# Altium integrated library Infineon ESD & EMI.IntLib: 71 symbols (part 2 of 2)
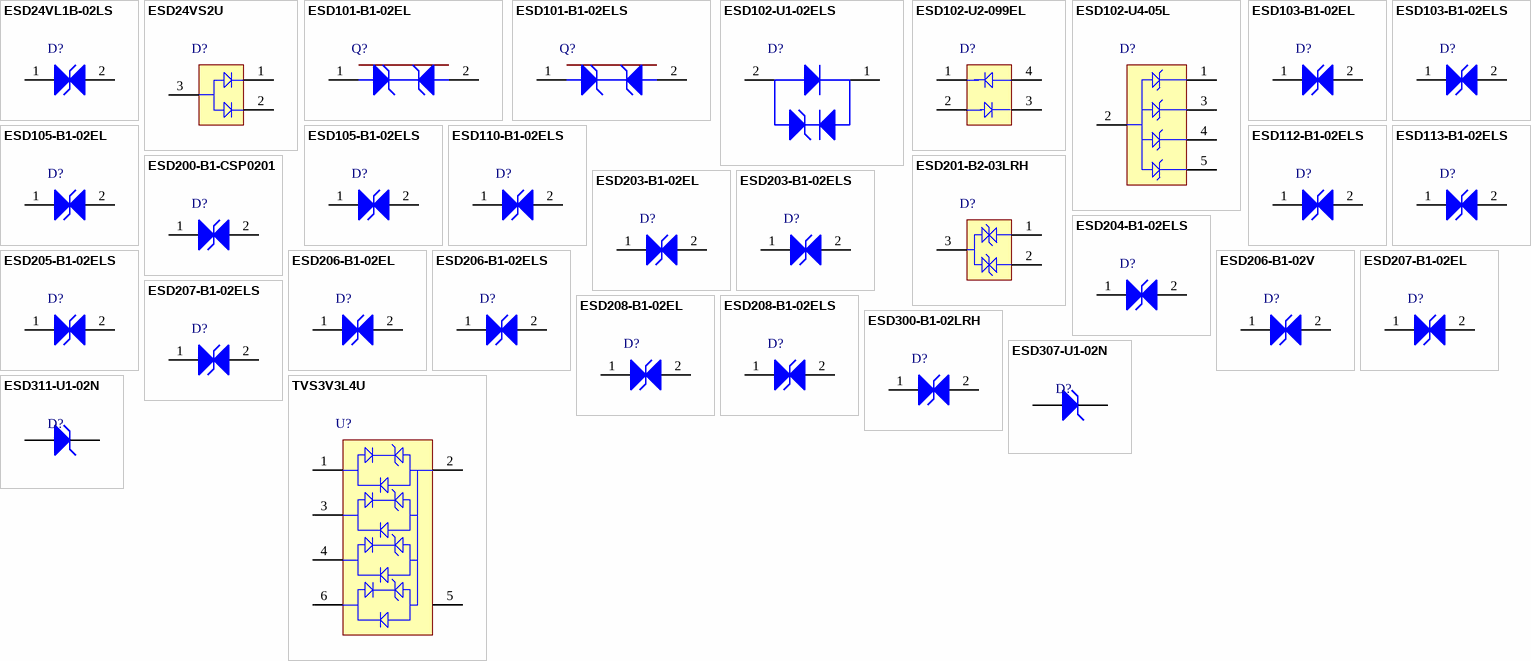
[diagram p2: symbols ESD24VL1B-02LS to TVS3V3L4U]

## ESD24VS2U
designator D?
Silicon TVS Diode, -55 to 150 degC, SOT23, Reel, Green; Manufacturer: Infineon; PartNumber: ESD24VS2U; CL (typ,max): 48 pF, 52 pF; Green: TRUE; IR (max): 10 uA; Rdyn typ forward: 0.11 Ohm; Rdyn typ reverse: 0.22 Ohm; VESD (max): 30 kV; VRWM (max): 24 V; PackageVersion: Apr-08; PackageReference: SOT23; PackageDescription: 3-Pin Small Outline Transistor Package, 1.3 x 2.9 mm Body, 0.95 mm Pitch; Supplier 1: Mouser; Supplier Part Number 1: N/A; Packing: Reel; Mounting Technology: Surface Mount; ComponentLink1Description: Manufacturer URL; ComponentLink1URL: http://www.infineon.com/; ComponentLink2Description: Datasheet; ComponentLink2URL: http://www.infineon.com/dgdl/esd24vs2u.pdf?folderId=db3a30431f848401011fcbf2ab4c04c4&fileId=db3a3043340fff53013413a2249d2ff3; ComponentLink3Description: Package Specification; ComponentLink3URL: http://www.infineon.com/dgdl/SOT23-Package_Overview.pdf?folderId=db3a30431936bc4b0119532290053c66&fileId=db3a30431936bc4b0119533468123c85
footprint INF-SOT23_N (SOT23, 3-Leads, Body 2.9x1.3 mm, Pitch 0.95 mm, IPC Medium Density)
footprint INF-SOT23_L (SOT23, 3-Leads, Body 2.9x1.3 mm, Pitch 0.95 mm, IPC High Density)
footprint INF-SOT23_M (SOT23, 3-Leads, Body 2.9x1.3 mm, Pitch 0.95 mm, IPC Low Density)
pins: 1 K1, 2 K2, 3 A

## ESD101-B1-02EL
designator Q?
Bi-directional Ultra Low Capacitance TVS Diode, -55 to 125 degC, TSLP-2, Reel, Green; Manufacturer: Infineon; PartNumber: ESD101-B1-02EL; CL (max): 0.2 pF; CL (typ): 0.1 pF; Green: TRUE; IR (max): 0.05 uA; VESD (max): 12 kV; VESD (min): -12 kV; VRWM (max): 5.5 V; VRWM (min): -5.5 V; DatasheetVersion: Rev. 1.2; PackageVersion: Feb-14; PackageReference: TSLP-2-20; PackageDescription: 2-Pin Thin Small Leadless Package, 0.6 x 1 mm Body; Halogen-free: TRUE; Packing: Reel; Mounting Technology: Surface Mount; ComponentLink1Description: Manufacturer URL; ComponentLink1URL: http://www.infineon.com/; ComponentLink2Description: Datasheet; ComponentLink2URL: http://www.infineon.com/dgdl/ESD101_B1_02series_rev_1_2.pdf?folderId=db3a30431f848401011fcbf2ab4c04c4&fileId=db3a30433e9d5d11013e9d6619a20002; ComponentLink3Description: Package Specification; ComponentLink3URL: http://www.infineon.com/dgdl/TSLP-2-19%2C-20-Package-Overview.pdf?folderId=db3a30431689f4420116afb5e4d9058b&fileId=db3a304344134c7a01441cad46672863
footprint INF-TSLP-2-20_V (TSLP, 2-Leads, Body 1x0.6mm, Pitch 0.65mm)
pins: 1 C1, 2 C2

## ESD101-B1-02ELS
designator Q?
Bi-directional Ultra Low Capacitance TVS Diode, -55 to 125 degC, TSSLP-2, Reel, Green; Manufacturer: Infineon; PartNumber: ESD101-B1-02ELS; CL (max): 0.2 pF; CL (typ): 0.1 pF; Green: TRUE; IR (max): 0.05 uA; DatasheetVersion: Rev. 1.2; PackageVersion: Apr-14; PackageReference: TSSLP-2-4; PackageDescription: 2-Pin Thin Super Small Leadless Package, 0.62 x 0.32 mm Body, 0.355 mm Pitch; Halogen-free: TRUE; Packing: Reel; Mounting Technology: Surface Mount; ComponentLink1Description: Manufacturer URL; ComponentLink1URL: http://www.infineon.com/; ComponentLink2Description: Datasheet; ComponentLink2URL: http://www.infineon.com/dgdl/ESD101_B1_02series_rev_1_2.pdf?folderId=db3a30431f848401011fcbf2ab4c04c4&fileId=db3a30433e9d5d11013e9d6619a20002; ComponentLink3Description: Package Specification; ComponentLink3URL: http://www.infineon.com/dgdl/TSSLP-2-3%2C-4-Package_Overview-.pdf?folderId=db3a30431689f4420116afb5e4d9058b&fileId=db3a304344134c7a01441c9888ca285e
footprint INF-TSSLP-2-4_V (TSSLP, 2-Leads, Body 0.62x0.32mm, Pitch 0.38mm)
pins: 1 C1, 2 C2

## ESD102-U1-02ELS
designator D?
Uni-directional Ultra-Low Capacitance ESD / Transient Protection Diode, -40 to 125 degC, PG-TSSLP-2-3, Reel, Green; Manufacturer: Infineon; PartNumber: ESD102-U1-02ELS; CL (max): 0.65 pF; CL (typ): 0.4 pF; Green: TRUE; IEFT: 50 A; IR (max): 50 uA; Isurge: 3 A; Protected Lines: 1; Rdyn typ forward: 0.23 Ohm; Rdyn typ reverse: 0.19 Ohm; VESD (max): 20 kV; VESD (min): -20 kV; VRWM (max): 3.3 V; DatasheetVersion: Rev. 1.0; PackageVersion: Nov-12; PackageReference: PG-TSSLP-2-3; PackageDescription: 2-Pin Thin Super Small Leadless Package, Body 0.62 x 0.32 mm, Pitch 0.355 mm; Halogen-free: TRUE; Packing: Reel; Mounting Technology: Surface Mount; ComponentLink1Description: Manufacturer URL; ComponentLink1URL: http://www.infineon.com/; ComponentLink2Description: Datasheet; ComponentLink2URL: http://www.infineon.com/dgdl/ESD102-U1-02ELS_rev_1_0.pdf?folderId=db3a30431f848401011fcbf2ab4c04c4&fileId=db3a30433d346a2d013d3a9e3c1b38ec; ComponentLink3Description: Package Specification; ComponentLink3URL: http://www.infineon.com/dgdl/TSSLP-2-3%2C-4-Package_Overview.pdf?folderId=db3a30431689f4420116afb5e4d9058b&fileId=db3a30433899edae0138b2fa94a80ffd
footprint INF-PG-TSSLP-2-3_V (TSSLP, 2-Leads, Body 0.62x0.32mm, Pitch 0.38mm)
pins: 1 C1, 2 C2

## ESD102-U2-099EL
designator D?
2-Line Ultra-low Capacitance ESD / Transient Protection Diode, -40 to 125 degC, TSLP-4, Reel, Green; Manufacturer: Infineon; PartNumber: ESD102-U2-099EL; CL (max): 0.65 pF; CL (typ): 0.4 pF; Green: TRUE; IR (max): 0.05 uA; DatasheetVersion: Rev. 1.1; PackageVersion: Mar-13; PackageReference: TSLP-4-10; PackageDescription: 4-Pin Thin Small Leadless Package, 0.75 x 0.75 mm Body, 0.4 mm Pitch; Halogen-free: TRUE; Packing: Reel; Mounting Technology: Surface Mount; ComponentLink1Description: Manufacturer URL; ComponentLink1URL: http://www.infineon.com/; ComponentLink2Description: Datasheet; ComponentLink2URL: http://www.infineon.com/dgdl/ESD102-U2-099EL_series_rev_1_1.pdf?folderId=db3a30431f848401011fcbf2ab4c04c4&fileId=db3a30433e82b1cf013e9d5922a412a5; ComponentLink3Description: Package Specification; ComponentLink3URL: http://www.infineon.com/dgdl/TSLP-4-10-Package_Overview.pdf?folderId=db3a30431689f4420116afb5e4d9058b&fileId=db3a30433d68e984013d8882990b12bd
footprint INF-TSLP-4-10_V (TSLP, 4-Leads, Body 0.75x0.75mm, Pitch 0.4mm)
pins: 1 K1, 2 A2, 3 K2, 4 A1

## ESD102-U4-05L
designator D?
Ultra-Low Capacitance ESD Protection Array for Flow-Through PCB Layout, -40 to 125 degC, PG-TSLP-5-2, Reel, Green; Manufacturer: Infineon; PartNumber: ESD102-U4-05L; CL (max): 0.65 pF; CL (typ): 0.4 pF; Green: TRUE; IEFT: 50 A; IR (max): 50 uA; Isurge: 3 A; Protected Lines: 4; Rdyn typ forward: 0.23 Ohm; Rdyn typ reverse: 0.19 Ohm; VESD (max): 20 kV; VESD (min): -20 kV; VRWM (max): 3.3 V; DatasheetVersion: Rev. 1.0; PackageVersion: Dec-12; PackageReference: PG-TSLP-5-2; PackageDescription: 5-Pin Thin Small Leadless Package, Body 1.3 x 0.8 mm, Pitch 0.5 mm; Halogen-free: TRUE; Packing: Reel; Mounting Technology: Surface Mount; ComponentLink1Description: Manufacturer URL; ComponentLink1URL: http://www.infineon.com/; ComponentLink2Description: Datasheet; ComponentLink2URL: http://www.infineon.com/dgdl/ESD102-U4-05L_rev_1_0.pdf?folderId=db3a30431f848401011fcbf2ab4c04c4&fileId=db3a30433d346a2d013d3ab43dd73971; ComponentLink3Description: Package Specification; ComponentLink3URL: http://www.infineon.com/dgdl/TSLP-5-2-Package_Overview.pdf?folderId=db3a30431689f4420116afb5e4d9058b&fileId=db3a30433afc7e3e013b3caa88766156
footprint INF-PG-TSLP-5-2_V (TSLP, 5-Leads, Body 1.3x0.8mm)
pins: 1 K1, 2 A, 3 K3, 4 K4, 5 K5

## ESD103-B1-02EL
designator D?
Bi-directional Ultra Low Capacitance TVS Diode, -55 to 125 degC, TSLP-2, Reel, Green; Manufacturer: Infineon; PartNumber: ESD103-B1-02EL; CL (max): 0.2 pF; CL (typ): 0.13 pF; Green: TRUE; IR (max): 0.05 uA; VESD (max): 10 kV; VESD (min): -10 kV; VRWM (max): 15 V; VRWM (min): -15 V; DatasheetVersion: Rev. 1.2; PackageVersion: Feb-14; PackageReference: TSLP-2-20; PackageDescription: 2-Pin Thin Small Leadless Package, 0.6 x 1 mm Body; Halogen-free: TRUE; Packing: Reel; Mounting Technology: Surface Mount; ComponentLink1Description: Manufacturer URL; ComponentLink1URL: http://www.infineon.com/; ComponentLink2Description: Datasheet; ComponentLink2URL: http://www.infineon.com/dgdl/ESD103-B1-02series_rev_1_2.pdf?folderId=db3a30431f848401011fcbf2ab4c04c4&fileId=db3a30433ee50ba8013eea95d0b1150b; ComponentLink3Description: Package Specification; ComponentLink3URL: http://www.infineon.com/dgdl/TSLP-2-19%2C-20-Package-Overview.pdf?folderId=db3a30431689f4420116afb5e4d9058b&fileId=db3a304344134c7a01441cad46672863
footprint INF-TSLP-2-20_V (TSLP, 2-Leads, Body 1x0.6mm, Pitch 0.65mm)
pins: 1 C, 2 C

## ESD103-B1-02ELS
designator D?
Bi-directional Ultra Low Capacitance TVS Diode, -55 to 125 degC, TSSLP-2, Reel, Green; Manufacturer: Infineon; PartNumber: ESD103-B1-02ELS; CL (max): 0.2 pF; CL (typ): 0.13 pF; Green: TRUE; IR (max): 0.05 uA; VESD (max): 10 KV; VESD (min): -10 KV; VRWM (max): 15 V; VRWM (min): -15 V; DatasheetVersion: Rev. 1.2; PackageVersion: Apr-14; PackageReference: TSSLP-2-4; PackageDescription: 2-Pin Thin Super Small Leadless Package, 0.62 x 0.32 mm Body, 0.355 mm Pitch; Halogen-free: TRUE; Packing: Reel; Mounting Technology: Surface Mount; ComponentLink1Description: Manufacturer URL; ComponentLink1URL: http://www.infineon.com/; ComponentLink2Description: Datasheet; ComponentLink2URL: http://www.infineon.com/dgdl/ESD103-B1-02series_rev_1_2.pdf?folderId=db3a30431f848401011fcbf2ab4c04c4&fileId=db3a30433ee50ba8013eea95d0b1150b; ComponentLink3Description: Package Specification; ComponentLink3URL: http://www.infineon.com/dgdl/TSSLP-2-3%2C-4-Package_Overview-.pdf?folderId=db3a30431689f4420116afb5e4d9058b&fileId=db3a304344134c7a01441c9888ca285e
footprint INF-TSSLP-2-4_V (TSSLP, 2-Leads, Body 0.62x0.32mm, Pitch 0.38mm)
pins: 1 C, 2 C

## ESD105-B1-02EL
designator D?
Low Capacitance & Low Clamping Bi-directional ESD / Transient Protection Diode, -55 to 125 degC, TSLP-2, Reel, Green; Manufacturer: Infineon; PartNumber: ESD105-B1-02EL; CL (max): 0.45 pF; CL (typ): 0.3 pF; Green: TRUE; IR (max): 0.02 uA; VESD (max): 30 kV; VRWM (max): 5.5 V; DatasheetVersion: Rev. 1.0; PackageVersion: Feb-14; PackageReference: TSLP-2-20; PackageDescription: 2-Pin Thin Small Leadless Package, 0.6 x 1 mm Body; Halogen-free: TRUE; Packing: Reel; Mounting Technology: Surface Mount; ComponentLink1Description: Manufacturer URL; ComponentLink1URL: http://www.infineon.com/; ComponentLink2Description: Datasheet; ComponentLink2URL: http://www.infineon.com/dgdl/ESD105_B1_02series_rev_1_0.pdf?folderId=db3a30431f848401011fcbf2ab4c04c4&fileId=db3a30434358307d01437c468ff01c72; ComponentLink3Description: Package Specification; ComponentLink3URL: http://www.infineon.com/dgdl/TSLP-2-19%2C-20-Package-Overview.pdf?folderId=db3a30431689f4420116afb5e4d9058b&fileId=db3a304344134c7a01441cad46672863
footprint INF-TSLP-2-20_V (TSLP, 2-Leads, Body 1x0.6mm, Pitch 0.65mm)
pins: 1 C, 2 C

## ESD105-B1-02ELS
designator D?
Low Capacitance & Low Clamping Bi-directional ESD / Transient Protection Diode, -55 to 125 degC, TSSLP-2, Reel, Green; Manufacturer: Infineon; PartNumber: ESD105-B1-02ELS; CL (max): 0.45 pF; CL (typ): 0.3 pF; Green: TRUE; IR (max): 0.02 uA; VESD (max): 30 kV; VRWM (max): 5.5 V; DatasheetVersion: Rev. 1.0; PackageVersion: Apr-14; PackageReference: TSSLP-2-4; PackageDescription: 2-Pin Thin Super Small Leadless Package, 0.62 x 0.32 mm Body, 0.355 mm Pitch; Halogen-free: TRUE; Packing: Reel; Mounting Technology: Surface Mount; ComponentLink1Description: Manufacturer URL; ComponentLink1URL: http://www.infineon.com/; ComponentLink2Description: Datasheet; ComponentLink2URL: http://www.infineon.com/dgdl/ESD105_B1_02series_rev_1_0.pdf?folderId=db3a30431f848401011fcbf2ab4c04c4&fileId=db3a30434358307d01437c468ff01c72; ComponentLink3Description: Package Specification; ComponentLink3URL: http://www.infineon.com/dgdl/TSSLP-2-3%2C-4-Package_Overview-.pdf?folderId=db3a30431689f4420116afb5e4d9058b&fileId=db3a304344134c7a01441c9888ca285e
footprint INF-TSSLP-2-4_V (TSSLP, 2-Leads, Body 0.62x0.32mm, Pitch 0.38mm)
pins: 1 C, 2 C

## ESD110-B1-02ELS
designator D?
ESD / Transient Protection Diode for Near Field Communication (NFC), -40 to 85 degC, PG-TSSLP-2-4, Reel, Green; Manufacturer: Infineon; PartNumber: ESD110-B1-02ELS; CL (max): 0.6 pF; CL (typ): 0.3 pF; Green: TRUE; IR (max): 30 uA; Isurge: 2 A; Protected Lines: 1; Rdyn typ forward: 0.6 Ohm; VESD (max): 15 kV; VESD (min): -15 kV; VRWM (max): 18.5 V; VRWM (min): -18.5 V; DatasheetVersion: Rev. 1.0; PackageVersion: Nov-12; PackageReference: PG-TSSLP-2-4; PackageDescription: 2-Pin Thin Super Small Leadless Package, Body 0.62 x 0.32 mm, Pitch 0.355 mm; Halogen-free: TRUE; Packing: Reel; Rdyn typ reverse: 0.6 Ohm; Mounting Technology: Surface Mount; ComponentLink1Description: Manufacturer URL; ComponentLink1URL: http://www.infineon.com/; ComponentLink2Description: Datasheet; ComponentLink2URL: http://www.infineon.com/dgdl/ESD110-B1-02ELS_rev_1_0.pdf?folderId=db3a30431f848401011fcbf2ab4c04c4&fileId=db3a30433d346a2d013d3aa9c03a393b; ComponentLink3Description: Package Specification; ComponentLink3URL: http://www.infineon.com/dgdl/TSSLP-2-3%2C-4-Package_Overview.pdf?folderId=db3a30431689f4420116afb5e4d9058b&fileId=db3a30433899edae0138b2fa94a80ffd
footprint INF-PG-TSSLP-2-4_V (TSSLP, 2-Leads, Body 0.62x0.32mm, Pitch 0.38mm)
pins: 1 C, 2 C

## ESD112-B1-02ELS
designator D?
Bi-directional Ultra-Low Capacitance ESD / Transient Protection Diode, -55 to 125 degC, PG-TSSLP-2-4, Reel, Green; Manufacturer: Infineon; PartNumber: ESD112-B1-02ELS; CL (max): 0.4 pF; CL (typ): 0.23 pF; Green: TRUE; IEFT: 40 A; IR (max): 50 uA; Isurge: 3 A; Protected Lines: 1; Rdyn typ forward: 1 Ohm; VESD (max): 20 kV; VESD (min): -20 kV; VRWM (max): 5.3 V; VRWM (min): -5.3 V; DatasheetVersion: Rev. 1.1; PackageVersion: Nov-12; PackageReference: PG-TSSLP-2-4; PackageDescription: 2-Pin Thin Super Small Leadless Package, Body 0.62 x 0.32 mm, Pitch 0.355 mm; Halogen-free: TRUE; Packing: Reel; Rdyn typ reverse: 1 Ohm; Mounting Technology: Surface Mount; ComponentLink1Description: Manufacturer URL; ComponentLink1URL: http://www.infineon.com/; ComponentLink2Description: Datasheet; ComponentLink2URL: http://www.infineon.com/dgdl/ESD112-B1-02ELS_rev_1_1.pdf?folderId=db3a30431f848401011fcbf2ab4c04c4&fileId=db3a30433d346a2d013d3aa400953906; ComponentLink3Description: Package Specification; ComponentLink3URL: http://www.infineon.com/dgdl/TSSLP-2-3%2C-4-Package_Overview.pdf?folderId=db3a30431689f4420116afb5e4d9058b&fileId=db3a30433899edae0138b2fa94a80ffd
footprint INF-PG-TSSLP-2-4_V (TSSLP, 2-Leads, Body 0.62x0.32mm, Pitch 0.38mm)
pins: 1 C, 2 C

## ESD113-B1-02ELS
designator D?
Bi-directional Ultra-Low Capacitance ESD / Transient Protection Diode, -40 to 125 degC, PG-TSSLP-2-4, Reel, Green; Manufacturer: Infineon; PartNumber: ESD113-B1-02ELS; CL (typ): 0.22 pF; Green: TRUE; IEFT: 50 A; IR (max): 50 uA; Isurge: 3 A; Protected Lines: 1; Rdyn typ forward: 0.45 Ohm; VESD (max): 20 kV; VESD (min): -20 kV; VRWM (max): 3.6 V; VRWM (min): -3.6 V; DatasheetVersion: Rev. 1.1; PackageVersion: Nov-12; PackageReference: PG-TSSLP-2-4; PackageDescription: 2-Pin Thin Super Small Leadless Package, Body 0.62 x 0.32 mm, Pitch 0.355 mm; Halogen-free: TRUE; Packing: Reel; Rdyn typ reverse: 0.45 Ohm; Mounting Technology: Surface Mount; ComponentLink1Description: Manufacturer URL; ComponentLink1URL: http://www.infineon.com/; ComponentLink2Description: Datasheet; ComponentLink2URL: http://www.infineon.com/dgdl/ESD113-B1-02ELS_rev_1_1.pdf?folderId=db3a30431f848401011fcbf2ab4c04c4&fileId=db3a30433d346a2d013d3aaf89663954; ComponentLink3Description: Package Specification; ComponentLink3URL: http://www.infineon.com/dgdl/TSSLP-2-3%2C-4-Package_Overview.pdf?folderId=db3a30431689f4420116afb5e4d9058b&fileId=db3a30433899edae0138b2fa94a80ffd
footprint INF-PG-TSSLP-2-4_V (TSSLP, 2-Leads, Body 0.62x0.32mm, Pitch 0.38mm)
pins: 1 C, 2 C

## ESD200-B1-CSP0201
designator D?
Low Clamping Voltage TVS Diode, -40 to 125 degC, WLL-2, Reel, Green; Manufacturer: Infineon; PartNumber: ESD200-B1-CSP0201; CL (typ): 6.5 pF; Green: TRUE; IR (max): 100 nA; Isurge: 3 A; Rdyn typ forward: 0.2 Ohm; VESD (max): 16 kV; VESD (min): -16 kV; VRWM (max): 5.5 V; VRWM (min): -5.5 V; DatasheetVersion: Rev. 1.0; PackageVersion: May-14; PackageReference: WLL-2-1; PackageDescription: 2-Ball Wafer Level Leadless Package, 0.58 x 0.28 mm Body; Halogen-free: TRUE; Packing: Reel; Rdyn typ reverse: 0.2 Ohm; Mounting Technology: Surface Mount; ComponentLink1Description: Manufacturer URL; ComponentLink1URL: http://www.infineon.com/; ComponentLink2Description: Datasheet; ComponentLink2URL: http://www.infineon.com/dgdl/ESD200-B1-CSP0201.pdf?folderId=db3a30431f848401011fcbf2ab4c04c4&fileId=db3a30433ee50ba8013eea92ca691505; ComponentLink3Description: Package Specification; ComponentLink3URL: http://www.infineon.com/dgdl/SG-WLL-2-1-Package_Overview.pdf?folderId=db3a30433a047ba0013a63c3f9e62af6&fileId=db3a30433a047ba0013a63cdacf02b04
footprint INF-WLL-2-1_V (WLL, 2-Leads, Body 0.58x0.28mm, Pitch 0.38mm)
pins: 1 C, 2 C

## ESD201-B2-03LRH
designator D?
Bi-directional Dual Diode for ESD / Transient Protection, -55 to 125 degC, PG-TSLP-3-9, Reel, Green; Manufacturer: Infineon; PartNumber: ESD201-B2-03LRH; CL (typ,max): 5 pF, 7 pF; Green: TRUE; IR (max): 100 uA; Rdyn typ forward: 0.22 Ohm; Rdyn typ reverse: 0.37 Ohm; VESD (max): 20 kV; VESD (min): -20 kV; VRWM (max): 5.5 V; VRWM (min): -5.5 V; DatasheetVersion: Rev. 1.1; PackageVersion: May-08; PackageReference: PG-TSLP-3-9; PackageDescription: 3-Pin Thin Small Leadless Package, Body 1 x 0.6 mm, Pitch 0.35 mm; Halogen-free: TRUE; Packing: Reel; Mounting Technology: Surface Mount; ComponentLink1Description: Manufacturer URL; ComponentLink1URL: http://www.infineon.com/; ComponentLink2Description: Datasheet; ComponentLink2URL: http://www.infineon.com/dgdl/ESD201-B2-03LRH_rev_1_1.pdf?folderId=db3a30431f848401011fcbf2ab4c04c4&fileId=db3a30433d346a2d013d3a65f0063795; ComponentLink3Description: Package Specification; ComponentLink3URL: http://www.infineon.com/dgdl/TSLP-3-9-Package_Overview.pdf?folderId=db3a304319bc939a0119becdb18f008a&fileId=db3a304319bc939a0119bedef5a600a3
footprint INF-PG-TSLP-3-9_V (TSLP, 3-Leads, Body 1x0.6mm)
pins: 1 C, 2 C, 3 C

## ESD203-B1-02EL
designator D?
Bi-Directional ESD / Transient / Surge Protection Diode, -55 to 125 degC, TSLP-2, Reel, Green; Manufacturer: Infineon; PartNumber: ESD203-B1-02EL; CL (max): 9 pF; CL (typ): 6 pF; Green: TRUE; IEFT: 50 A; IR (max): 50 nA; Isurge: 5 A; Rdyn typ forward: 0.29 Ohm; VESD (max): 30 KV; VESD (min): -30 KV; DatasheetVersion: Rev. 1.3; PackageVersion: Feb-14; PackageReference: TSLP-2-19; PackageDescription: 2-Pin Thin Small Leadless Package, 0.6 x 1 mm Body; Halogen-free: TRUE; Packing: Reel; Rdyn typ reverse: 0.29 Ohm; Mounting Technology: Surface Mount; ComponentLink1Description: Manufacturer URL; ComponentLink1URL: http://www.infineon.com/; ComponentLink2Description: Datasheet; ComponentLink2URL: http://www.infineon.com/dgdl/ESD203-B1-02series_rev_1_3.pdf?folderId=db3a30431f848401011fcbf2ab4c04c4&fileId=db3a30433fcce646013fe718d01a6811; ComponentLink3Description: Package Specification; ComponentLink3URL: http://www.infineon.com/dgdl/TSLP-2-19%2C-20-Package-Overview.pdf?folderId=db3a30431689f4420116afb5e4d9058b&fileId=db3a304344134c7a01441cad46672863
footprint INF-TSLP-2-19_V (TSLP, 2-Leads, Body 1x0.6mm, Pitch 0.65mm)
pins: 1 C, 2 C

## ESD203-B1-02ELS
designator D?
Bi-directional ESD / Transient / Surge Protection Diode, -55 to 125 degC, TSSLP-2, Reel, Green; Manufacturer: Infineon; PartNumber: ESD203-B1-02ELS; CL (max): 9 pF; CL (typ): 6 pF; Green: TRUE; IEFT: 50 A; IR (max): 50 nA; Isurge: 5 A; Rdyn typ forward: 0.29 Ohm; VESD (max): 30 kV; VESD (min): -30 kV; DatasheetVersion: Rev. 1.3; PackageVersion: Apr-14; PackageReference: TSSLP-2-4; PackageDescription: 2-Pin Thin Super Small Leadless Package, 0.62 x 0.32 mm Body, 0.355 mm Pitch; Halogen-free: TRUE; Packing: Reel; Rdyn typ reverse: 0.29 Ohm; Mounting Technology: Surface Mount; ComponentLink1Description: Manufacturer URL; ComponentLink1URL: http://www.infineon.com/; ComponentLink2Description: Datasheet; ComponentLink2URL: http://www.infineon.com/dgdl/ESD203-B1-02series_rev_1_3.pdf?folderId=db3a30431f848401011fcbf2ab4c04c4&fileId=db3a30433fcce646013fe718d01a6811; ComponentLink3Description: Package Specification; ComponentLink3URL: http://www.infineon.com/dgdl/TSSLP-2-3%2C-4-Package_Overview-.pdf?folderId=db3a30431689f4420116afb5e4d9058b&fileId=db3a304344134c7a01441c9888ca285e
footprint INF-TSSLP-2-4_V (TSSLP, 2-Leads, Body 0.62x0.32mm, Pitch 0.38mm)
pins: 1 C, 2 C

## ESD204-B1-02ELS
designator D?
Bi-directional Low Capacitance TVS Diode, -55 to 150 degC, PG-TSSLP-2-3, Reel, Green; Manufacturer: Infineon; PartNumber: ESD204-B1-02ELS; CL (typ,max): 4 pF, 7 pF; Green: TRUE; IR (max): 50 uA; Rdyn typ forward: 0.5 Ohm; Rdyn typ reverse: 0.6 Ohm; VESD (max): 15 kV; VESD (min): -15 kV; VRWM (max): 14 V; VRWM (min): -8 V; DatasheetVersion: Rev. 1.1; PackageVersion: Nov-12; PackageReference: PG-TSSLP-2-3; PackageDescription: 2-Pin Thin Super Small Leadless Package, Body 0.62 x 0.32 mm, Pitch 0.355 mm; Halogen-free: TRUE; Packing: Reel; Mounting Technology: Surface Mount; ComponentLink1Description: Manufacturer URL; ComponentLink1URL: http://www.infineon.com/; ComponentLink2Description: Datasheet; ComponentLink2URL: http://www.infineon.com/dgdl/ESD204-B1-02ELS_rev_1_1.pdf?folderId=db3a30431f848401011fcbf2ab4c04c4&fileId=db3a30433d346a2d013d354e3ab309c7; ComponentLink3Description: Package Specification; ComponentLink3URL: http://www.infineon.com/dgdl/TSSLP-2-3%2C-4-Package_Overview.pdf?folderId=db3a30431689f4420116afb5e4d9058b&fileId=db3a30433899edae0138b2fa94a80ffd
footprint INF-PG-TSSLP-2-3_V (TSSLP, 2-Leads, Body 0.62x0.32mm, Pitch 0.38mm)
pins: 1 C, 2 C

## ESD205-B1-02ELS
designator D?
Bi-directional Low Capacitance ESD / Transient Protection Diode, -55 to 125 degC, PG-TSSLP-2-3, Reel, Green; Manufacturer: Infineon; PartNumber: ESD205-B1-02ELS; CL (typ,max): 4 pF, 7 pF; Green: TRUE; IR (max): 100 uA; Rdyn typ forward: 0.37 Ohm; Rdyn typ reverse: 0.22 Ohm; VESD (max): 20 kV; VESD (min): -20 kV; VRWM (max): 5.5 V; VRWM (min): -5.5 V; DatasheetVersion: Rev. 1.2; PackageVersion: Nov-12; PackageReference: PG-TSSLP-2-3; PackageDescription: 2-Pin Thin Super Small Leadless Package, Body 0.62 x 0.32 mm, Pitch 0.355 mm; Halogen-free: TRUE; Packing: Reel; Mounting Technology: Surface Mount; ComponentLink1Description: Manufacturer URL; ComponentLink1URL: http://www.infineon.com/; ComponentLink2Description: Datasheet; ComponentLink2URL: http://www.infineon.com/dgdl/ESD205-B1-02ELS_re_1_2.pdf?folderId=db3a30431f848401011fcbf2ab4c04c4&fileId=db3a30433d346a2d013d3a7ee031381c; ComponentLink3Description: Package Specification; ComponentLink3URL: http://www.infineon.com/dgdl/TSSLP-2-3%2C-4-Package_Overview.pdf?folderId=db3a30431689f4420116afb5e4d9058b&fileId=db3a30433899edae0138b2fa94a80ffd
footprint INF-PG-TSSLP-2-3_V (TSSLP, 2-Leads, Body 0.62x0.32mm, Pitch 0.38mm)
pins: 1 C, 2 C

## ESD206-B1-02EL
designator D?
Ultra Low Clamping Bi-Directional ESD / Transient / Surge Protection Diode, -55 to 125 degC, TSLP-2, Reel, Green; Manufacturer: Infineon; PartNumber: ESD206-B1-02EL; CL (max): 20 pF; CL (typ): 12 pF; Green: TRUE; IEFT: 50 A; IR (max): 50 nA; Isurge: 6 A; VESD (max): 30 kV; VESD (min): -30 kV; VRWM (max): 5.5 V; VRWM (min): -5.5 V; DatasheetVersion: Rev. 1.5; PackageVersion: Feb-14; PackageReference: TSLP-2-19; PackageDescription: 2-Pin Thin Small Leadless Package, 0.6 x 1 mm Body; Halogen-free: TRUE; Packing: Reel; Mounting Technology: Surface Mount; ComponentLink1Description: Manufacturer URL; ComponentLink1URL: http://www.infineon.com/; ComponentLink2Description: Datasheet; ComponentLink2URL: http://www.infineon.com/dgdl/ESD206-B1-02series_rev_1_5.pdf?folderId=db3a30431f848401011fcbf2ab4c04c4&fileId=db3a30433fcce646013fe701bf8e67f3; ComponentLink3Description: Package Specification; ComponentLink3URL: http://www.infineon.com/dgdl/TSLP-2-19%2C-20-Package-Overview.pdf?folderId=db3a30431689f4420116afb5e4d9058b&fileId=db3a304344134c7a01441cad46672863
footprint INF-TSLP-2-19_V (TSLP, 2-Leads, Body 1x0.6mm, Pitch 0.65mm)
pins: 1 C, 2 C

## ESD206-B1-02ELS
designator D?
Ultra Low Clamping Bi-Directional ESD / Transient / Surge Protection Diode, -55 to 125 degC, TSSLP-2, Reel, Green; Manufacturer: Infineon; PartNumber: ESD206-B1-02ELS; CL (max): 20 pF; CL (typ): 12 pF; Green: TRUE; IEFT: 50 A; IR (max): 50 nA; Isurge: 6 A; VESD (max): 30 kV; VESD (min): -30 kV; VRWM (max): 5.5 V; VRWM (min): -5.5 V; DatasheetVersion: Rev. 1.5; PackageVersion: Apr-14; PackageReference: TSSLP-2-3; PackageDescription: 2-Pin Thin Super Small Leadless Package, 0.62 x 0.32 mm Body, 0.355 mm Pitch; Halogen-free: TRUE; Packing: Reel; Mounting Technology: Surface Mount; ComponentLink1Description: Manufacturer URL; ComponentLink1URL: http://www.infineon.com/; ComponentLink2Description: Datasheet; ComponentLink2URL: http://www.infineon.com/dgdl/ESD206-B1-02series_rev_1_5.pdf?folderId=db3a30431f848401011fcbf2ab4c04c4&fileId=db3a30433fcce646013fe701bf8e67f3; ComponentLink3Description: Package Specification; ComponentLink3URL: http://www.infineon.com/dgdl/TSSLP-2-3%2C-4-Package_Overview-.pdf?folderId=db3a30431689f4420116afb5e4d9058b&fileId=db3a304344134c7a01441c9888ca285e
footprint INF-TSSLP-2-3_V (TSSLP, 2-Leads, Body 0.62x0.32mm, Pitch 0.38mm)
pins: 1 C, 2 C

## ESD206-B1-02V
designator D?
Ultra Low Clamping Bi-Directional ESD / Transient / Surge Protection Diode, -55 to 125 degC, PG-SC79-2, Reel, Green; Manufacturer: Infineon; PartNumber: ESD206-B1-02V; CL (max): 20 pF; CL (typ): 12 pF; Green: TRUE; IEFT: 50A; IR (max): 50 nA; Isurge: 6A; Rdyn typ forward: 0.15 Ohm; VESD (max): 30 kV; VESD (min): -30 kV; VRWM (max): 5.5 V; VRWM (min): -5.5 V; DatasheetVersion: Rev. 1.2; PackageVersion: Apr-08; PackageReference: PG-SC79-2-1; PackageDescription: 2-Pin Semiconductor Package, 0.8 x 1.2 mm Body, 1.35 mm Pitch; Halogen-free: TRUE; Packing: Reel; Rdyn typ reverse: 0.15 Ohm; Mounting Technology: Surface Mount; ComponentLink1Description: Manufacturer URL; ComponentLink1URL: http://www.infineon.com/; ComponentLink2Description: Datasheet; ComponentLink2URL: http://www.infineon.com/dgdl/ESD206-B1-02V_rev_1_2.pdf?folderId=db3a30431f848401011fcbf2ab4c04c4&fileId=db3a30433ea3aef6013ea805d3da06b5; ComponentLink3Description: Package Specification; ComponentLink3URL: http://www.infineon.com/dgdl/SC79-Package_Overview.pdf?folderId=db3a30431936bc4b011951fbddb03b15&fileId=db3a30431936bc4b01195226fe583b41
footprint INF-PG-SC79-2-1_V (SC79, 2-Leads, Body 1.2x0.8mm, Pitch 1.35mm)
pins: 1 C, 2 C

## ESD207-B1-02EL
designator D?
Ultra Low Clamping Bi-Directional ESD / Transient / Surge Protection Diode, -40 to 125 degC, TSLP-2, Reel, Green; Manufacturer: Infineon; PartNumber: ESD207-B1-02EL; CL (max): 20 pF; CL (typ): 14 pF; Green: TRUE; IEFT: 50 A; IR (max): 0.05 uA; Isurge: 8 A; Rdyn typ forward: 0.13 Ohm; VESD (max): 30 kV; VESD (min): -30 kV; VRWM (max): 3.3 V; VRWM (min): -3.3 V; DatasheetVersion: Rev. 1.3; PackageVersion: Feb-14; PackageReference: TSLP-2-19; PackageDescription: 2-Pin Thin Small Leadless Package, 0.6 x 1 mm Body; Halogen-free: TRUE; Packing: Reel; Rdyn typ reverse: 0.13 Ohm; Mounting Technology: Surface Mount; ComponentLink1Description: Manufacturer URL; ComponentLink1URL: http://www.infineon.com/; ComponentLink2Description: Datasheet; ComponentLink2URL: http://www.infineon.com/dgdl/ESD207-B1-02Eseries_rev_1_3.pdf?folderId=db3a30431f848401011fcbf2ab4c04c4&fileId=db3a30433fcce646013fe73388cf685b; ComponentLink3Description: Package Specification; ComponentLink3URL: http://www.infineon.com/dgdl/TSLP-2-19%2C-20-Package-Overview.pdf?folderId=db3a30431689f4420116afb5e4d9058b&fileId=db3a304344134c7a01441cad46672863
footprint INF-TSLP-2-19_V (TSLP, 2-Leads, Body 1x0.6mm, Pitch 0.65mm)
pins: 1 C, 2 C

## ESD207-B1-02ELS
designator D?
Ultra Low Clamping Bi-directional ESD / Transient / Surge Protection Diode, -40 to 125 degC, TSSLP-2, Reel, Green; Manufacturer: Infineon; PartNumber: ESD207-B1-02ELS; CL (max): 20 pF; CL (typ): 14 pF; Green: TRUE; IEFT: 50 A; IR (max): 0.05 uA; Isurge: 8 A; Rdyn typ forward: 0.13 Ohm; VESD (max): 30 kV; VESD (min): -30 kV; VRWM (max): 3.3 V; VRWM (min): -3.3 V; DatasheetVersion: Rev. 1.3; PackageVersion: Apr-14; PackageReference: TSSLP-2-3; PackageDescription: 2-Pin Thin Super Small Leadless Package, 0.62 x 0.32 mm Body, 0.355 mm Pitch; Halogen-free: TRUE; Packing: Reel; Rdyn typ reverse: 0.13 Ohm; Mounting Technology: Surface Mount; ComponentLink1Description: Manufacturer URL; ComponentLink1URL: http://www.infineon.com/; ComponentLink2Description: Datasheet; ComponentLink2URL: http://www.infineon.com/dgdl/ESD207-B1-02Eseries_rev_1_3.pdf?folderId=db3a30431f848401011fcbf2ab4c04c4&fileId=db3a30433fcce646013fe73388cf685b; ComponentLink3Description: Package Specification; ComponentLink3URL: http://www.infineon.com/dgdl/TSSLP-2-3%2C-4-Package_Overview-.pdf?folderId=db3a30431689f4420116afb5e4d9058b&fileId=db3a304344134c7a01441c9888ca285e
footprint INF-TSSLP-2-3_V (TSSLP, 2-Leads, Body 0.62x0.32mm, Pitch 0.38mm)
pins: 1 C, 2 C

## ESD208-B1-02EL
designator D?
Ultra Low Clamping ESD / Transient Protection Diode, -55 to 125 degC, TSLP-2, Reel, Green; Manufacturer: Infineon; PartNumber: ESD208-B1-02EL; CL (max): 9 pF; CL (typ): 6 pF; Green: TRUE; IEFT: 80 A; IR (max): 0.05 uA; Isurge: 4 A; Rdyn typ forward: 0.2 Ohm; VESD (max): 25 kV; VESD (min): -25 kV; VRWM (max): 3.3 V; VRWM (min): -3.3 V; DatasheetVersion: Rev. 1.2; PackageVersion: Feb-14; PackageReference: TSLP-2-19; PackageDescription: 2-Pin Thin Small Leadless Package, 0.6 x 1 mm Body; Halogen-free: TRUE; Packing: Reel; Rdyn typ reverse: 0.2 Ohm; Mounting Technology: Surface Mount; ComponentLink1Description: Manufacturer URL; ComponentLink1URL: http://www.infineon.com/; ComponentLink2Description: Datasheet; ComponentLink2URL: http://www.infineon.com/dgdl/ESD208-B1-02+Series_rev_1_3.pdf?folderId=db3a30431f848401011fcbf2ab4c04c4&fileId=db3a3043429a38690142c241d4cb2c0f; ComponentLink3Description: Package Specification; ComponentLink3URL: http://www.infineon.com/dgdl/TSLP-2-19%2C-20-Package-Overview.pdf?folderId=db3a30431689f4420116afb5e4d9058b&fileId=db3a304344134c7a01441cad46672863
footprint INF-TSLP-2-19_V (TSLP, 2-Leads, Body 1x0.6mm, Pitch 0.65mm)
pins: 1 C, 2 C

## ESD208-B1-02ELS
designator D?
Ultra Low Clamping ESD / Transient Protection Diode, -55 to 125 degC, TSSLP-2, Reel, Green; Manufacturer: Infineon; PartNumber: ESD208-B1-02ELS; CL (max): 9 pF; CL (typ): 6 pF; Green: TRUE; IEFT: 80 A; IR (max): 0.05 uA; Isurge: 4 A; Rdyn typ forward: 0.2 Ohm; VESD (max): 25 kV; VESD (min): -25 kV; VRWM (max): 3.3 V; VRWM (min): -3.3 V; DatasheetVersion: Rev. 1.2; PackageVersion: Apr-14; PackageReference: TSSLP-2-3; PackageDescription: 2-Pin Thin Super Small Leadless Package, 0.62 x 0.32 mm Body, 0.355 mm Pitch; Halogen-free: TRUE; Packing: Reel; Rdyn typ reverse: 0.2 Ohm; Mounting Technology: Surface Mount; ComponentLink1Description: Manufacturer URL; ComponentLink1URL: http://www.infineon.com/; ComponentLink2Description: Datasheet; ComponentLink2URL: http://www.infineon.com/dgdl/ESD208-B1-02+Series_rev_1_3.pdf?folderId=db3a30431f848401011fcbf2ab4c04c4&fileId=db3a3043429a38690142c241d4cb2c0f; ComponentLink3Description: Package Specification; ComponentLink3URL: http://www.infineon.com/dgdl/TSSLP-2-3%2C-4-Package_Overview-.pdf?folderId=db3a30431689f4420116afb5e4d9058b&fileId=db3a304344134c7a01441c9888ca285e
footprint INF-TSSLP-2-3_V (TSSLP, 2-Leads, Body 0.62x0.32mm, Pitch 0.38mm)
pins: 1 C, 2 C

## ESD300-B1-02LRH
designator D?
Low Clamping & Low Capacitance ESD / Surge Protection Diode, -55 to 125 degC, TSLP-2, Reel, Green; Manufacturer: Infineon; PartNumber: ESD300-B1-02LRH; CL (max): 1.8 pF; CL (typ): 1.2 pF; Green: TRUE; IR (max): 100 nA; Isurge: 18 A; Rdyn typ forward: 0.23 Ohm; DatasheetVersion: Rev. 1.2; PackageVersion: Oct-13; PackageReference: TSLP-2-17; PackageDescription: 2-Pin Thin Small Leadless Package, 1 x 0.6 mm Body, 0.65 mm Pitch; Halogen-free: TRUE; Packing: Reel; Rdyn typ reverse: 0.23 Ohm; Mounting Technology: Surface Mount; ComponentLink1Description: Manufacturer URL; ComponentLink1URL: http://www.infineon.com/; ComponentLink2Description: Datasheet; ComponentLink2URL: http://www.infineon.com/dgdl/ESD300-B1-02LRH_rev_1_2.pdf?folderId=db3a30431f848401011fcbf2ab4c04c4&fileId=db3a30434358307d014376eafb4f3d31; ComponentLink3Description: Package Specification; ComponentLink3URL: http://www.infineon.com/dgdl/TSLP-2-7%2C-17%2C-21-Package_Overview.pdf?folderId=db3a30431689f4420116afb5e4d9058b&fileId=db3a304340155f3d01403574dc4c4cfd
footprint INF-TSLP-2-17_V (TSLP, 2-Leads, Body 1x0.6mm, Pitch 0.65mm)
pins: 1 C, 2 C

## ESD307-U1-02N
designator D?
Uni-Directional, 10 V, 270 pF, 0603, RoHS and Halogen Free Compliant, 34 A Isurge, -40 to 125 degC, TSNP-2, Reel, Green; Manufacturer: Infineon; PartNumber: ESD307-U1-02N; CL (max): 350 pF; CL (typ): 270 pF; Green: TRUE; IEFT: 80 A; IR (max): 100 nA; Isurge: 34 A; Rdyn typ reverse: 0.05 Ohm; VESD (max): 30 kV; VESD (min): -30 kV; DatasheetVersion: Rev. 1.0; PackageVersion: Mar-14; PackageReference: TSNP-2-2; PackageDescription: 2-Pin Thin Small Non Leaded Package, 1.6 x 0.8 mm Body; Applications: Surge protection of USB VBUS lines in mobile devices; Halogen-free: TRUE; Packing: Reel; Mounting Technology: Surface Mount; ComponentLink1Description: Manufacturer URL; ComponentLink1URL: http://www.infineon.com/; ComponentLink2Description: Datasheet; ComponentLink2URL: http://www.infineon.com/dgdl/ESD307-U1-02N_rev_1_0.pdf?folderId=db3a30431f848401011fcbf2ab4c04c4&fileId=5546d461464245d30146954ae83569ea; ComponentLink3Description: Package Specification; ComponentLink3URL: http://www.infineon.com/dgdl/TSNP-2-2-Package_Overview_.pdf?folderId=db3a304327b89750012805e1379a6124&fileId=db3a304344ae06150144b11b30220086
footprint INF-TSNP-2-2_V (TSNP, 2-Leads, Body 1.6x0.8mm)
pins: 1 K, 2 A

## ESD311-U1-02N
designator D?
Uni-Directional, 15 V, 210 pF, 0603, RoHS and Halogen Free Compliant, 28 A Isurge, -40 to 125 degC, TSNP-2, Reel, Green; Manufacturer: Infineon; PartNumber: ESD311-U1-02N; CL (max): 290 pF; CL (typ): 210 pF; Green: TRUE; IEFT: 80 A; IR (max): 100 nA; Isurge: 28 A; Rdyn typ forward: 0.07 Ohm; Rdyn typ reverse: 0.05 Ohm; VESD (max): 30 kV; VESD (min): -30 kV; VRWM (max): 15 V; DatasheetVersion: Rev. 1.0; PackageVersion: Mar-14; PackageReference: TSNP-2-2; PackageDescription: 2-Pin Thin Small Non Leaded Package, 1.6 x 0.8 mm Body; Applications: Surge protection of USB VBUS lines in mobile devices; Halogen-free: TRUE; Packing: Reel; Mounting Technology: Surface Mount; ComponentLink1Description: Manufacturer URL; ComponentLink1URL: http://www.infineon.com/; ComponentLink2Description: Datasheet; ComponentLink2URL: http://www.infineon.com/dgdl/ESD311-U1-02N_rev_1_0.pdf?folderId=db3a30431f848401011fcbf2ab4c04c4&fileId=5546d461464245d30146955421396a1d; ComponentLink3Description: Package Specification; ComponentLink3URL: http://www.infineon.com/dgdl/TSNP-2-2-Package_Overview_.pdf?folderId=db3a304327b89750012805e1379a6124&fileId=db3a304344ae06150144b11b30220086
footprint INF-TSNP-2-2_V (TSNP, 2-Leads, Body 1.6x0.8mm)
pins: 1 K, 2 A

## TVS3V3L4U
designator U?
Low Capacitance ESD / Transient / Surge Protection Array, -55 to 125 degC, SC74, Reel, Green; Manufacturer: Infineon; PartNumber: TVS3V3L4U; CL (max): 3 pF; CL (typ): 2 pF; Green: TRUE; IEFT: 80 A; IR (max): 50 uA; Rdyn typ forward: 0.12 Ohm; Rdyn typ reverse: 9 Ohm; VESD (max): 30 kV; VESD (min): -30 kV; VRWM: 3.3 V; DatasheetVersion: Rev. 2.2; PackageVersion: Apr-08; PackageReference: SC74; PackageDescription: 6-Pin Semiconductor Package, 2.9 x 1.6 mm Body, 0.95 mm Pitch; Packing: Reel; Mounting Technology: Surface Mount; ComponentLink1Description: Manufacturer URL; ComponentLink1URL: http://www.infineon.com/; ComponentLink2Description: Datasheet; ComponentLink2URL: http://www.infineon.com/dgdl/TVS3V3L4U_rev_2_2.pdf?folderId=db3a30431f848401011fcbf2ab4c04c4&fileId=db3a3043382e837301385be7912532ed; ComponentLink3Description: Package Specification; ComponentLink3URL: http://www.infineon.com/dgdl/SC74-Package_Overview.pdf?folderId=db3a30431936bc4b01194dec844f40d9&fileId=db3a30431936bc4b01195175d46e3ab3
footprint INF-SC74_N (SOT23, 6-Leads, Body 2.9x1.6mm, Pitch 0.95mm, IPC Medium Density)
footprint INF-SC74_L (SOT23, 6-Leads, Body 2.9x1.6mm, Pitch 0.95mm, IPC High Density)
footprint INF-SC74_M (SOT23, 6-Leads, Body 2.9x1.6mm, Pitch 0.95mm, IPC Low Density)
pins: 1 C, 2 C, 3 C, 4 C, 5 NC, 6 C